# Altium integrated library inductor_SMD.IntLib: 2 symbols
Pins are listed as number, name and electrical type; pins without a type are passive.

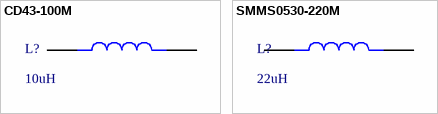
[diagram p0: symbols CD43-100M to SMMS0530-220M]

## CD43-100M
designator L?, comment 10uH
C2826643
footprint CD43-100M
pins: 1, 2

## SMMS0530-220M
designator L?, comment 22uH
SMMS0530-220M C2842153
footprint SMMS0530-220M
pins: 1, 2